# EAGLE library part USBLC6-4SC6 (library SOT95P280X145-6N)
Very low capacitance ESD protection
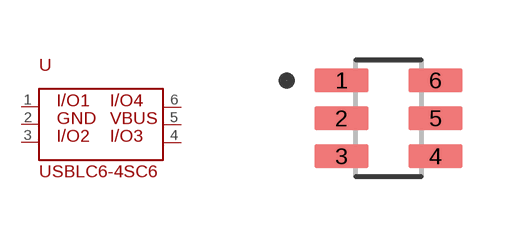
[diagram p0: symbol with the pads of SOT95P280X145-6N; footprint SOT95P280X145-6N]

Designator prefix -

## USBLC6-4SC6  [SOT95P280X145-6N]
1  P$1
2  P$2
3  P$3
4  P$4
5  P$5
6  P$6

## Footprint SOT95P280X145-6N (pad centres in mm)
smd 1.36 x 0.6: 1 -1.175,0.95; 2 -1.175,0; 3 -1.175,-0.95; 4 1.175,-0.95; 5 1.175,0; 6 1.175,0.95